# Altium schematic symbol library STMicroG.SchLib: 5 symbols
Pins are listed as number, name and electrical type; pins without a type are passive.

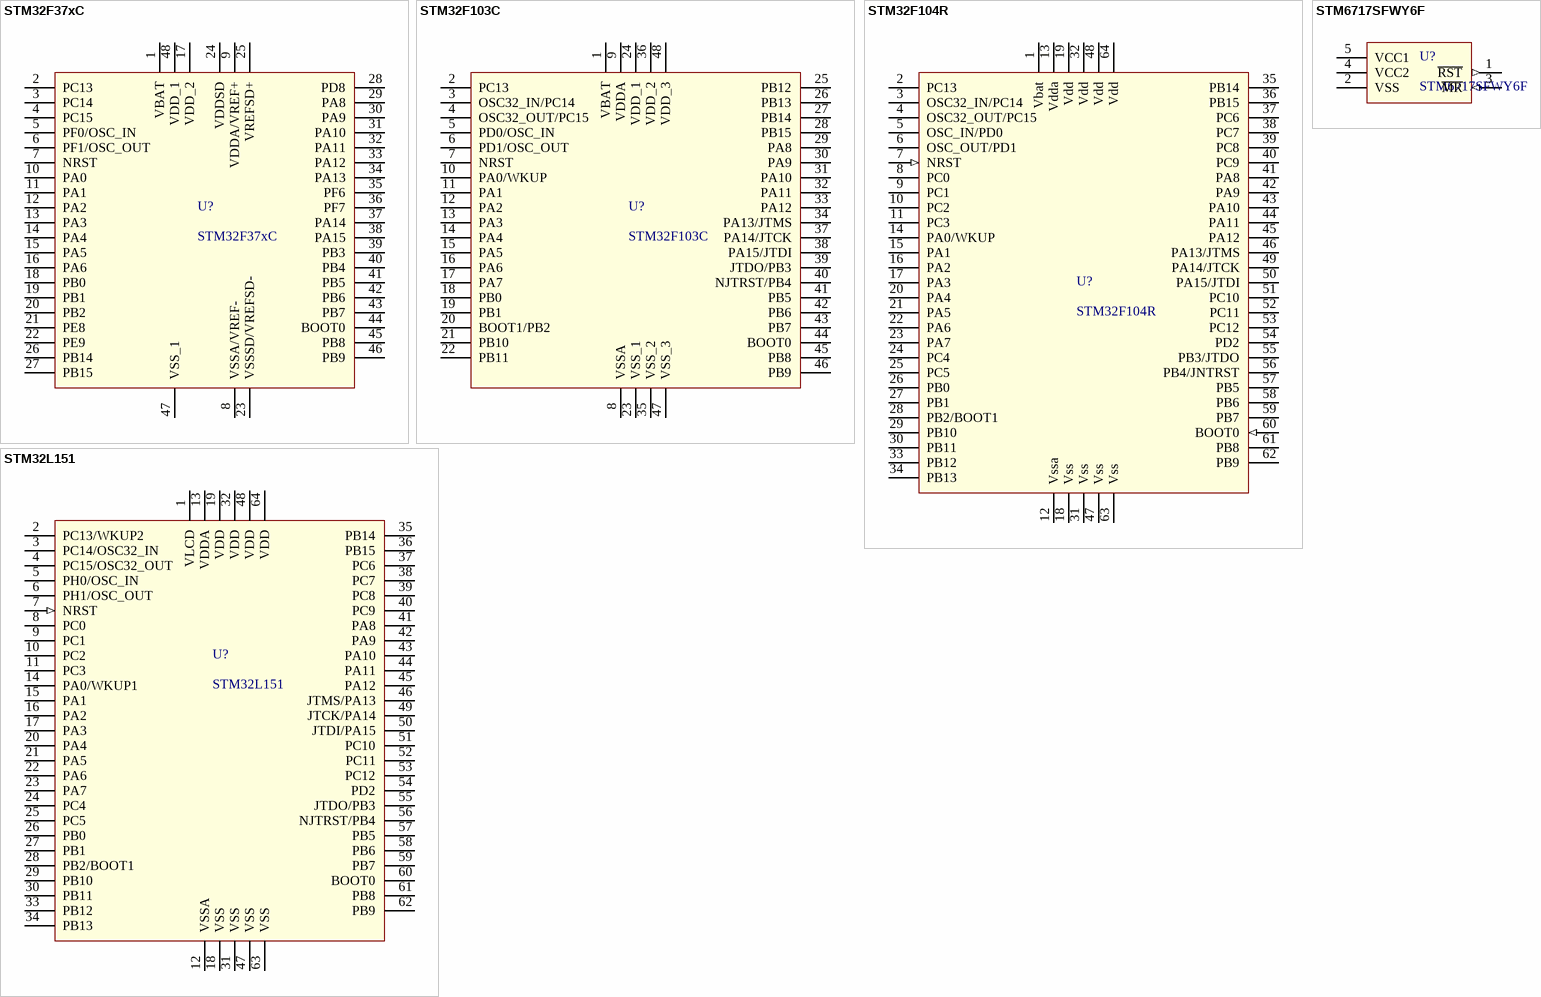
[diagram p0: symbols STM32F37xC to STM6717SFWY6F]

## STM32F37xC
designator U?
footprint SQFP50P900X900-48N (Shrink QFP, 48-Leads, Body 7x7mm, Pitch 0.5mm, IPC Medium Density)
pins: 1 VBAT, 2 PC13, 3 PC14, 4 PC15, 5 PF0/OSC_IN, 6 PF1/OSC_OUT, 7 NRST, 8 VSSA/VREF-, 9 VDDA/VREF+, 10 PA0, 11 PA1, 12 PA2, 13 PA3, 14 PA4, 15 PA5, 16 PA6, 17 VDD_2, 18 PB0, 19 PB1, 20 PB2, 21 PE8, 22 PE9, 23 VSSSD/VREFSD-, 24 VDDSD, 25 VREFSD+, 26 PB14, 27 PB15, 28 PD8, 29 PA8, 30 PA9, 31 PA10, 32 PA11, 33 PA12, 34 PA13, 35 PF6, 36 PF7, 37 PA14, 38 PA15, 39 PB3, 40 PB4, 41 PB5, 42 PB6, 43 PB7, 44 BOOT0, 45 PB8, 46 PB9, 47 VSS_1, 48 VDD_1

## STM32F103C
designator U?
footprint SQFP50P900X900-48N (Shrink QFP, 48-Leads, Body 7x7mm, Pitch 0.5mm, IPC Medium Density)
pins: 1 VBAT, 2 PC13, 3 OSC32_IN/PC14, 4 OSC32_OUT/PC15, 5 PD0/OSC_IN, 6 PD1/OSC_OUT, 7 NRST, 8 VSSA, 9 VDDA, 10 PA0/WKUP, 11 PA1, 12 PA2, 13 PA3, 14 PA4, 15 PA5, 16 PA6, 17 PA7, 18 PB0, 19 PB1, 20 BOOT1/PB2, 21 PB10, 22 PB11, 23 VSS_1, 24 VDD_1, 25 PB12, 26 PB13, 27 PB14, 28 PB15, 29 PA8, 30 PA9, 31 PA10, 32 PA11, 33 PA12, 34 PA13/JTMS, 35 VSS_2, 36 VDD_2, 37 PA14/JTCK, 38 PA15/JTDI, 39 JTDO/PB3, 40 NJTRST/PB4, 41 PB5, 42 PB6, 43 PB7, 44 BOOT0, 45 PB8, 46 PB9, 47 VSS_3, 48 VDD_3

## STM32F104R
designator U?
footprint SQFP50P1200X1200-64N (Shrink QFP, 64-Leads, Body 10x10mm, Pitch 0.5mm, IPC Medium Density)
pins: 1 Vbat (power), 2 PC13, 3 OSC32_IN/PC14, 4 OSC32_OUT/PC15, 5 OSC_IN/PD0, 6 OSC_OUT/PD1, 7 NRST (in), 8 PC0, 9 PC1, 10 PC2, 11 PC3, 12 Vssa (power), 13 Vdda (power), 14 PA0/WKUP, 15 PA1, 16 PA2, 17 PA3, 18 Vss (power), 19 Vdd (power), 20 PA4, 21 PA5, 22 PA6, 23 PA7, 24 PC4, 25 PC5, 26 PB0, 27 PB1, 28 PB2/BOOT1, 29 PB10, 30 PB11, 31 Vss (power), 32 Vdd (power), 33 PB12, 34 PB13, 35 PB14, 36 PB15, 37 PC6, 38 PC7, 39 PC8, 40 PC9, 41 PA8, 42 PA9, 43 PA10, 44 PA11, 45 PA12, 46 PA13/JTMS, 47 Vss (power), 48 Vdd (power), 49 PA14/JTCK, 50 PA15/JTDI, 51 PC10, 52 PC11, 53 PC12, 54 PD2, 55 PB3/JTDO, 56 PB4/JNTRST, 57 PB5, 58 PB6, 59 PB7, 60 BOOT0 (in), 61 PB8, 62 PB9, 63 Vss (power), 64 Vdd (power)

## STM32L151
designator U?
footprint SQFP50P1200X1200-64N (Footprint not found)
pins: 1 VLCD, 2 PC13/WKUP2, 3 PC14/OSC32_IN, 4 PC15/OSC32_OUT, 5 PH0/OSC_IN, 6 PH1/OSC_OUT, 7 NRST (in), 8 PC0, 9 PC1, 10 PC2, 11 PC3, 12 VSSA, 13 VDDA, 14 PA0/WKUP1, 15 PA1, 16 PA2, 17 PA3, 18 VSS, 19 VDD, 20 PA4, 21 PA5, 22 PA6, 23 PA7, 24 PC4, 25 PC5, 26 PB0, 27 PB1, 28 PB2/BOOT1, 29 PB10, 30 PB11, 31 VSS, 32 VDD, 33 PB12, 34 PB13, 35 PB14, 36 PB15, 37 PC6, 38 PC7, 39 PC8, 40 PC9, 41 PA8, 42 PA9, 43 PA10, 44 PA11, 45 PA12, 46 JTMS/PA13, 47 VSS, 48 VDD, 49 JTCK/PA14, 50 JTDI/PA15, 51 PC10, 52 PC11, 53 PC12, 54 PD2, 55 JTDO/PB3, 56 NJTRST/PB4, 57 PB5, 58 PB6, 59 PB7, 60 BOOT0, 61 PB8, 62 PB9, 63 VSS, 64 VDD

## STM6717SFWY6F
designator U?
Dual voltage supervisor with reset
pins: 1 ~{RST} (out), 2 VSS (power), 3 ~{MR} (in), 4 VCC2 (power), 5 VCC1 (power)